# EAGLE library part ATXMEGA256A3BU (library Atmel)
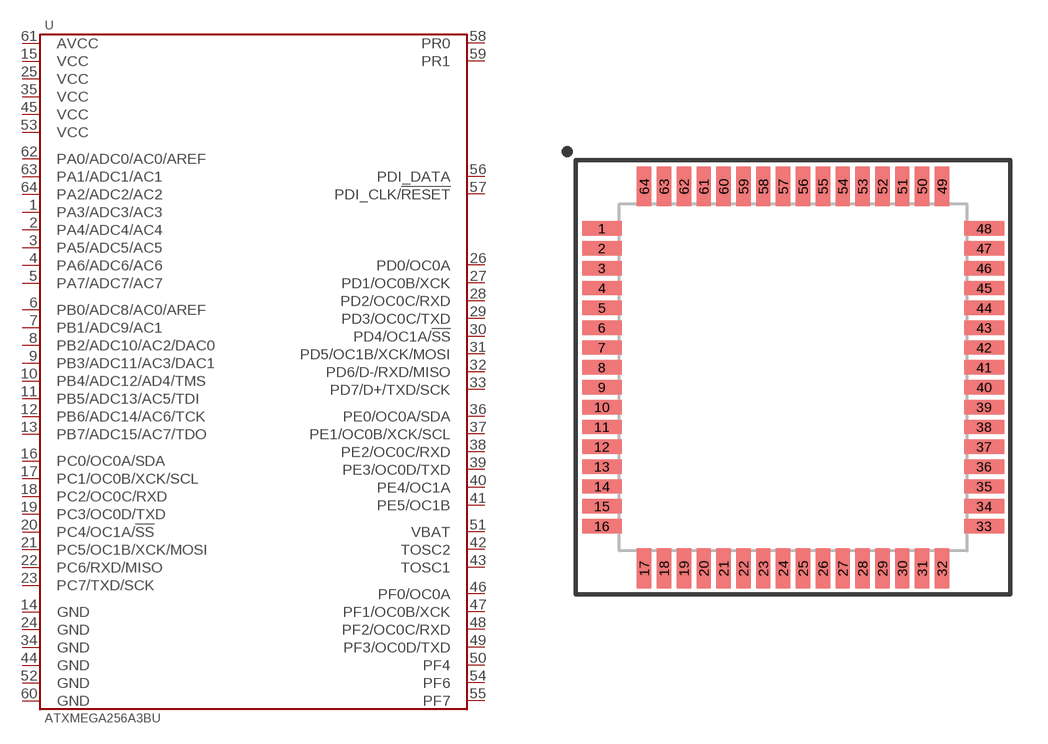
[diagram p11: symbol with the pads of TQFP-64; footprint TQFP-64]

Designator prefix -

## ATXMEGA256A3BU  [TQFP-64]
1  PA3/ADC3/AC3
2  PA4/ADC4/AC4
3  PA5/ADC5/AC5
4  PA6/ADC6/AC6
5  PA7/ADC7/AC7
6  PB0/ADC8/AC0/AREF
7  PB1/ADC9/AC1
8  PB2/ADC10/AC2/DAC0
9  PB3/ADC11/AC3/DAC1
10  PB4/ADC12/AD4/TMS
11  PB5/ADC13/AC5/TDI
12  PB6/ADC14/AC6/TCK
13  PB7/ADC15/AC7/TDO
14  GND
15  VCC
16  PC0/OC0A/SDA
17  PC1/OC0B/XCK/SCL
18  PC2/OC0C/RXD
19  PC3/OC0D/TXD
20  PC4/OC1A/!SS
21  PC5/OC1B/XCK/MOSI
22  PC6/RXD/MISO
23  PC7/TXD/SCK
24  GND
25  VCC
26  PD0/OC0A
27  PD1/OC0B/XCK
28  PD2/OC0C/RXD
29  PD3/OC0C/TXD
30  PD4/OC1A/!SS
31  PD5/OC1B/XCK/MOSI
32  PD6/D-/RXD/MISO
33  PD7/D+/TXD/SCK
34  GND
35  VCC
36  PE0/OC0A/SDA
37  PE1/OC0B/XCK/SCL
38  PE2/OC0C/RXD
39  PE3/OC0D/TXD
40  PE4/OC1A
41  PE5/OC1B
42  TOSC2
43  TOSC1
44  GND
45  VCC
46  PF0/OC0A
47  PF1/OC0B/XCK
48  PF2/OC0C/RXD
49  PF3/OC0D/TXD
50  PF4
51  VBAT
52  GND
53  VCC
54  PF6
55  PF7
56  PDI_DATA
57  PDI_CLK/!RESET
58  PR0
59  PR1
60  GND
61  AVCC
62  PA0/ADC0/AC0/AREF
63  PA1/ADC1/AC1
64  PA2/ADC2/AC2

## Footprint TQFP-64 (pad centres in mm)
smd 1.6 x 0.58: 1 -7.7,6; 2 -7.7,5.2; 3 -7.7,4.4; 4 -7.7,3.6; 5 -7.7,2.8; 6 -7.7,2; 7 -7.7,1.2; 8 -7.7,0.4; 9 -7.7,-0.4; 10 -7.7,-1.2; 11 -7.7,-2; 12 -7.7,-2.8; 13 -7.7,-3.6; 14 -7.7,-4.4; 15 -7.7,-5.2; 16 -7.7,-6; 33 7.7,-6; 34 7.7,-5.2; 35 7.7,-4.4; 36 7.7,-3.6; 37 7.7,-2.8; 38 7.7,-2; 39 7.7,-1.2; 40 7.7,-0.4; 41 7.7,0.4; 42 7.7,1.2; 43 7.7,2; 44 7.7,2.8; 45 7.7,3.6; 46 7.7,4.4; 47 7.7,5.2; 48 7.7,6
smd 0.58 x 1.6: 17 -6,-7.7; 18 -5.2,-7.7; 19 -4.4,-7.7; 20 -3.6,-7.7; 21 -2.8,-7.7; 22 -2,-7.7; 23 -1.2,-7.7; 24 -0.4,-7.7; 25 0.4,-7.7; 26 1.2,-7.7; 27 2,-7.7; 28 2.8,-7.7; 29 3.6,-7.7; 30 4.4,-7.7; 31 5.2,-7.7; 32 6,-7.7; 49 6,7.7; 50 5.2,7.7; 51 4.4,7.7; 52 3.6,7.7; 53 2.8,7.7; 54 2,7.7; 55 1.2,7.7; 56 0.4,7.7; 57 -0.4,7.7; 58 -1.2,7.7; 59 -2,7.7; 60 -2.8,7.7; 61 -3.6,7.7; 62 -4.4,7.7; 63 -5.2,7.7; 64 -6,7.7